# Altium footprint library MT6308.PcbLib: 1 footprints
Each footprint in its own frame and in the unit in brackets; x right, y up, seen from the top. Pads: shape width x height; smd on the part's side, far side on the other; paste and mask are expansions set on the pad; w line width, h text height; cw(c..) or ccw(c..) is an arc to the next point about the centre after c.
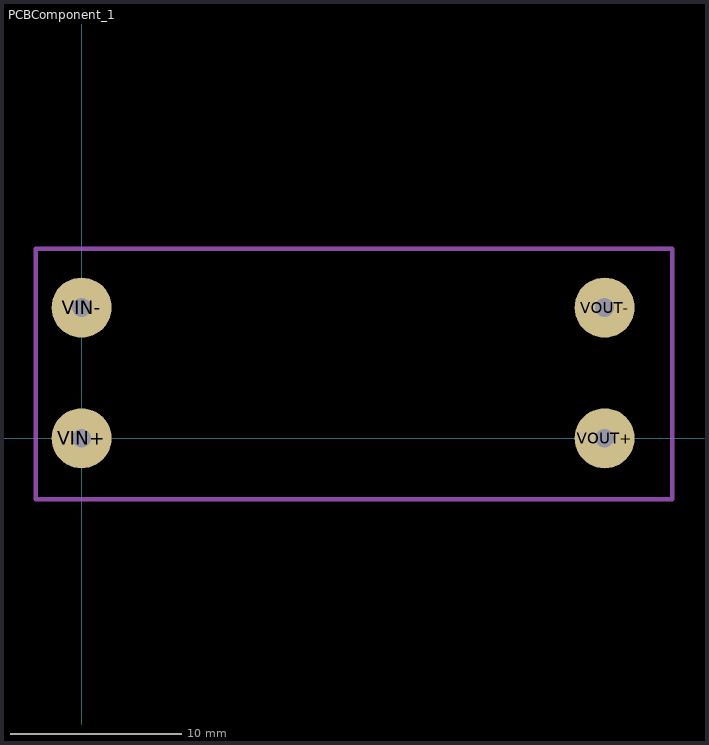
[diagram p0: the footprint, top view; thin cyan lines are the x and y axes]

## PCBComponent_1 [mm]
pads (4):
  round 3.5 hole 1.1: VIN+(0,0) VIN-(0,7.62) VOUT+(30.48,0) VOUT-(30.48,7.62)
Mechanical 1:
  lines w0.254: -2.667,-3.556 34.417,-3.556 34.417,11.049 -2.667,11.049 -2.667,-3.556